# Altium schematic symbol library PowerJack.SchLib: 2 symbols
Pins are listed as number, name and electrical type; pins without a type are passive.

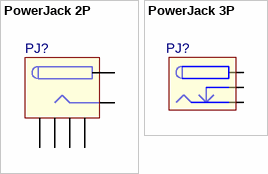
[diagram p0: symbols PowerJack 2P to PowerJack 3P]

## PowerJack 2P
designator PJ?  (value not drawn)
Value: PowerJack 2P
footprint HI Power Jack (24V 5A)
pins: 1, 2, MH1, MH2, MH3, MH4

## PowerJack 3P
designator PJ?  (value not drawn)
Value: PowerJack 3P
footprint DC-140-0
footprint PJ-050B (DC POWER JACK)
pins: 1, 2, 3